# Altium footprint library Lib Marius.PcbLib: 393 footprints (part 20 of 25)
Each footprint in its own frame and in the unit in brackets; x right, y up, seen from the top. Pads: shape width x height; smd on the part's side, far side on the other; paste and mask are expansions set on the pad; w line width, h text height; cw(c..) or ccw(c..) is an arc to the next point about the centre after c.
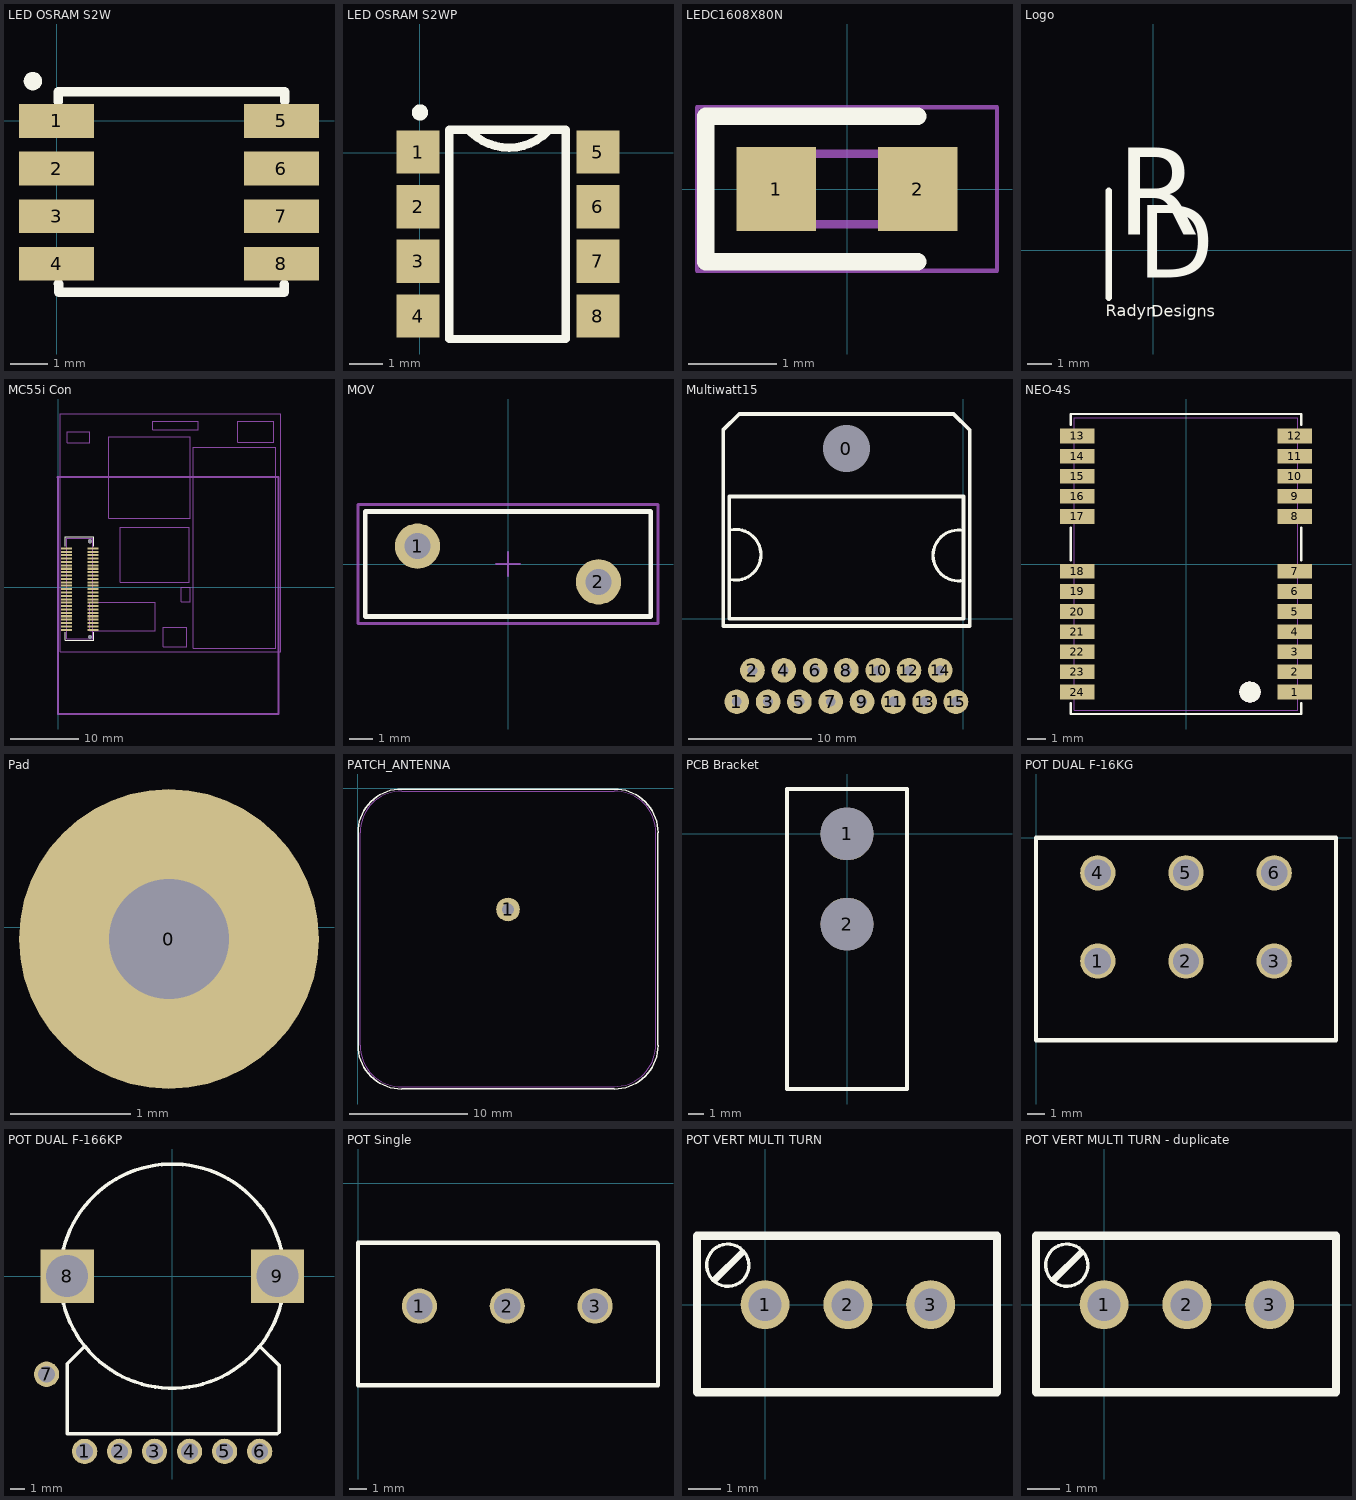
[diagram p19: the footprints below, top view; thin cyan lines are the x and y axes]

## LED OSRAM S2W [mm] "Osram RGBW LED"
height 2
pads (8):
  rect 2x0.9 smd: 1(0,0) 2(0,-1.27) 3(0,-2.54) 4(0,-3.81) 5(6,0) 6(6,-1.27) 7(6,-2.54) 8(6,-3.81)
Top Overlay:
  lines w0.254: -0.516,1.097 ccw(c-0.629,1.062) -0.511,1.062 ; 0.044,-4.345 0.056,-4.345 0.056,-4.569 6.076,-4.569 6.076,-4.357 ; 0.044,0.507 0.044,0.778 6.041,0.778 ; 6.076,0.778 6.088,0.778 6.088,0.531

## LED OSRAM S2WP [mm] "Osram RGBW LED"
height 2
pads (8):
  rect 1.3x1.3 smd: 1(-0.053,0.028) 2(-0.053,-1.612) 3(-0.053,-3.252) 4(-0.053,-4.892) 5(5.347,0.028) 6(5.347,-1.612) 7(5.347,-3.252) 8(5.347,-4.892)
Top Overlay:
  lines w0.254: 0.117,1.252 ccw(c0.005,1.216) 0.123,1.216 ; 1.534,0.627 ccw(c2.677,1.79) 3.839,0.647 ; 0.882,-5.58 0.882,0.692 4.386,0.692 4.386,-5.58 0.882,-5.58

## LEDC1608X80N [mm]
pads (2):
  rect 0.9x0.95 smd: 1(-0.8,0) 2(0.8,0)
Top Overlay:
  lines w0.2: 0.8,-0.825 -1.6,-0.825 -1.6,0.825 0.8,0.825
Mechanical 13:
  lines w0.1: -0.8,0.133 -0.533,0.4 ; -0.8,-0.4 -0.8,0.4 0.8,0.4 0.8,-0.4 -0.8,-0.4
Mechanical 15:
  lines w0.05: -1.7,-0.925 -1.7,0.925 1.7,0.925 1.7,-0.925 -1.7,-0.925
3D body "LTST-C190KRKT.stp": height 0.8, standoff 0, extent -0.83,-0.4 0.77,0.4

## Logo [mm] "Radyn Designs Logo"
Top Overlay:
  lines w0.254: -1.8,-1.908 -1.8,2.387
  text "Designs" at -0.082,-2.84 h0.8
  text "Radyn" at -1.909,-2.803 h0.8
  text "D" at -0.628,-2.063 h5
  text "R" at -1.477,-0.519 h6

## MC55i Con [mm]
pads (52):
  rect 1.6x0.3 smd mask+0: 1(5.15,5.7) 2(5.15,5.2) 3(5.15,4.7) 4(5.15,4.2) 5(5.15,3.7) 6(5.15,3.2) 7(5.15,2.7) 8(5.15,2.2) 9(5.15,1.7) 10(5.15,1.2) 11(5.15,0.7) 12(5.15,0.2) 13(5.15,-0.3) 14(5.15,-0.8) 15(5.15,-1.3) 16(5.15,-1.8) 17(5.15,-2.3) 18(5.15,-2.8) 19(5.15,-3.3) 20(5.15,-3.8) 21(5.15,-4.3) 22(5.15,-4.8) 23(5.15,-5.3) 24(5.15,-5.8) 25(5.15,-6.3) 26(1.25,-6.3) 27(1.25,-5.8) 28(1.25,-5.3) 29(1.25,-4.8) 30(1.25,-4.3) 31(1.25,-3.8) 32(1.25,-3.3) 33(1.25,-2.8) 34(1.25,-2.3) 35(1.25,-1.8) 36(1.25,-1.3) 37(1.25,-0.8) 38(1.25,-0.3) 39(1.25,0.2) 40(1.25,0.7) 41(1.25,1.2) 42(1.25,1.7) 43(1.25,2.2) 44(1.25,2.7) 45(1.25,3.2) 46(1.25,3.7) 47(1.25,4.2) 48(1.25,4.7) 49(1.25,5.2) 50(1.25,5.7)
  round 0.6 hole 0.6 unplated mask+0: 51(4.7,6.75) 52(4.7,-7.35)
Top Overlay:
  lines w0.127: 1.1,-6.65 1.1,-7.8 5.3,-7.8 5.3,-6.65 ; 1.1,6.05 1.1,7.4 5.3,7.4 5.3,6.05
Mechanical 7:
  lines w0.3: -0.1,16.2 32.5,16.2 32.5,-18.7 0,-18.7 0,16.1 -0.1,16.2
Mechanical 13:
  lines w0.065: 1.3,-7.6 1.3,7.2 5.1,7.2 5.1,-7.6 1.3,-7.6
  text ".Designator" at 3.55,-3.825 h0.69
Mechanical 32:
  lines w0.065: 0.3,-9.5 0.3,25.5 32.8,25.5 32.8,-9.5 0.3,-9.5 ; 1.35,21.3 4.65,21.3 4.65,22.9 1.35,22.9 1.35,21.3 ; 4.7,-6.45 14.3,-6.45 14.3,-2.25 4.7,-2.25 4.7,-6.45 ; 7.5,10.15 19.5,10.15 19.5,22.15 7.5,22.15 7.5,10.15 ; 9.2,0.7 9.2,8.8 19.3,8.8 19.3,0.7 9.2,0.7 ; 13.95,23.15 13.95,24.45 20.65,24.45 20.65,23.15 13.95,23.15 ; 15.5,-8.8 19,-8.8 19,-5.95 15.5,-5.95 15.5,-8.8 ; 18.15,-2.15 18.15,0 19.45,0 19.45,-2.15 18.15,-2.15 ; 19.9,-9 19.9,20.6 32.1,20.6 32.1,-9 19.9,-9 ; 26.5,21.35 31.75,21.35 31.75,24.45 31.05,24.45 26.5,24.45 26.5,21.35
3D body "df12_4_0_-50dp-0_5v_asm.stp": height 3.7, standoff -0.2, extent 0.9,-8.1 5.5,7.5

## MOV [mm] "MOV, Metal oxide varistor, dia 12mm, width 4.4mm"
height 14.5
pads (2):
  round 1.9 hole 1.1: 1(-3.8,0.75) 2(3.8,-0.75)
Top Overlay:
  lines w0.2: -6,-2.2 -6,2.2 -4.875,2.2 6,2.2 6,-2.2 2.575,-2.2 -6,-2.2
  text ".Designator" at -5.5,2.8 h1
Mechanical 13:
  lines w0.1: -6,-2.2 -6,2.2 6,2.2 6,-2.2 -6,-2.2
Mechanical 15:
  lines w0.1: -0.5,0 0.5,0 ; 0,-0.5 0,0.5
  lines w0.127: -6.3,-2.5 -6.3,2.5 6.3,2.5 6.3,-2.5 -6.3,-2.5
3D body "User Library-final MOV7,5.step": height 16.5, standoff -2, extent -5.784,-0.8 5.5,1.05

## Multiwatt15 [mm]
pads (16):
  round 3 hole 3.8: 0(-9.5,13.8)
  round 2 hole 0.8: 1(-18.39,-6.74) 2(-17.12,-4.2) 3(-15.85,-6.74) 4(-14.58,-4.2) 5(-13.31,-6.74) 6(-12.04,-4.2) 7(-10.77,-6.74) 8(-9.5,-4.2) 9(-8.23,-6.74) 10(-6.96,-4.2) 11(-5.69,-6.74) 12(-4.42,-4.2) 13(-3.15,-6.74) 14(-1.88,-4.2) 15(-0.61,-6.74)
Top Overlay:
  lines w0.254: -18.9,3.157 ccw(c-18.496,5.178) -18.9,7.2 ; 0,3.1 cw(c-0.404,5.122) 0,7.143
  lines w0.3: -19.5,15.2 -19.5,15.3 ; -19.5,15.3 -18.2,16.6 ; -19.5,15.3 -19.5,-0.6 0.5,-0.6 0.5,15.3 ; -19.5,15.3 -18.2,16.6 ; -18.2,16.6 -0.8,16.6 ; -0.8,16.6 0.5,15.3 ; -0.8,16.6 0.5,15.3 ; -19,0 -19,9.9 0,9.9 0,0 -19,0

## NEO-4S [mm]
pads (24):
  rect 1.9x0.8 smd mask+0: 1(5.95,-7) 2(5.95,-5.9) 3(5.95,-4.8) 4(5.95,-3.7) 5(5.95,-2.6) 6(5.95,-1.5) 7(5.95,-0.4) 8(5.95,2.6) 9(5.95,3.7) 10(5.95,4.8) 11(5.95,5.9) 12(5.95,7) 13(-5.95,7) 14(-5.95,5.9) 15(-5.95,4.8) 16(-5.95,3.7) 17(-5.95,2.6) 18(-5.95,-0.4) 19(-5.95,-1.5) 20(-5.95,-2.6) 21(-5.95,-3.7) 22(-5.95,-4.8) 23(-5.95,-5.9) 24(-5.95,-7)
Top Overlay:
  region: 3.507,-6.424 3.51,-6.423 3.516,-6.426 3.522,-6.425 3.708,-6.462 3.72,-6.469 3.733,-6.472 3.899,-6.582 3.906,-6.594 3.918,-6.601 4.028,-6.767 4.031,-6.78 4.038,-6.792 4.077,-6.987 4.075,-7 4.077,-7.013 4.038,-7.208 4.031,-7.22 4.028,-7.233 3.918,-7.399 3.906,-7.406 3.899,-7.418 3.733,-7.528 3.72,-7.531 3.708,-7.538 3.513,-7.577 3.5,-7.575 3.487,-7.577 3.292,-7.538 3.28,-7.531 3.267,-7.528 3.101,-7.418 3.094,-7.406 3.082,-7.399 2.972,-7.233 2.969,-7.22 2.962,-7.208 2.923,-7.013 2.925,-7 2.923,-6.987 2.962,-6.792 2.969,-6.78 2.972,-6.767 3.082,-6.601 3.094,-6.594 3.101,-6.582 3.267,-6.472 3.28,-6.469 3.292,-6.462 3.487,-6.423 3.493,-6.424 3.5,-6.421
  lines w0.127: -6.3,-7.6 -6.3,-8.2 6.3,-8.2 6.3,-7.6 ; -6.3,0.2 -6.3,2 ; -6.3,7.6 -6.3,8.2 6.3,8.2 6.3,7.6 ; 6.3,0.2 6.3,2
Mechanical 1:
  region: 3.507,-6.424 3.51,-6.423 3.516,-6.426 3.522,-6.425 3.708,-6.462 3.72,-6.469 3.733,-6.472 3.899,-6.582 3.906,-6.594 3.918,-6.601 4.028,-6.767 4.031,-6.78 4.038,-6.792 4.077,-6.987 4.075,-7 4.077,-7.013 4.038,-7.208 4.031,-7.22 4.028,-7.233 3.918,-7.399 3.906,-7.406 3.899,-7.418 3.733,-7.528 3.72,-7.531 3.708,-7.538 3.513,-7.577 3.5,-7.575 3.487,-7.577 3.292,-7.538 3.28,-7.531 3.267,-7.528 3.101,-7.418 3.094,-7.406 3.082,-7.399 2.972,-7.233 2.969,-7.22 2.962,-7.208 2.923,-7.013 2.925,-7 2.923,-6.987 2.962,-6.792 2.969,-6.78 2.972,-6.767 3.082,-6.601 3.094,-6.594 3.101,-6.582 3.267,-6.472 3.28,-6.469 3.292,-6.462 3.487,-6.423 3.493,-6.424 3.5,-6.421
Mechanical 13:
  lines w0.065: -6.1,-7.999 -6.1,7.999 6.1,7.999 6.1,-7.999 -6.1,-7.999

## Pad [mm]
pads (1):
  round 2.5 hole 1: 0(-3.7,-0.1)

## PATCH_ANTENNA [mm]
pads (1):
  round 2 hole 1 mask+0: 1(12.725,-10.25)
Top Overlay:
  lines w0.127: 0.025,-21.75 ccw(c3.725,-21.75) 3.725,-25.45 21.725,-25.45 ccw(c21.725,-21.75) 25.425,-21.75 25.425,-3.75 ccw(c21.725,-3.75) 21.725,-0.05 3.725,-0.05 ccw(c3.725,-3.75) 0.025,-3.75 0.025,-21.75
Top Solder:
  region: 21.731,-0.608 21.737,-0.606 21.791,-0.61 21.801,-0.615 21.812,-0.614 22.353,-0.743 22.362,-0.75 22.374,-0.75 22.888,-0.963 22.896,-0.971 22.907,-0.973 23.381,-1.264 23.388,-1.273 23.399,-1.276 23.822,-1.638 23.827,-1.648 23.837,-1.653 24.199,-2.076 24.202,-2.087 24.211,-2.094 24.502,-2.568 24.504,-2.579 24.512,-2.587 24.725,-3.101 24.725,-3.113 24.732,-3.122 24.861,-3.663 24.86,-3.674 24.865,-3.684 24.869,-3.738 24.862,-3.759 24.87,-21.751 24.867,-21.756 24.869,-21.762 24.865,-21.816 24.86,-21.826 24.861,-21.837 24.732,-22.378 24.725,-22.387 24.725,-22.399 24.512,-22.913 24.504,-22.921 24.502,-22.932 24.211,-23.406 24.202,-23.413 24.199,-23.424 23.837,-23.847 23.827,-23.852 23.822,-23.862 23.399,-24.224 23.388,-24.227 23.381,-24.236 22.907,-24.527 22.896,-24.529 22.888,-24.537 22.374,-24.75 22.362,-24.75 22.353,-24.757 21.812,-24.886 21.801,-24.885 21.791,-24.89 21.737,-24.894 21.716,-24.887 3.724,-24.895 3.719,-24.892 3.713,-24.894 3.659,-24.89 3.649,-24.885 3.638,-24.886 3.097,-24.757 3.088,-24.75 3.076,-24.75 2.562,-24.537 2.554,-24.529 2.543,-24.527 2.069,-24.236 2.062,-24.227 2.051,-24.224 1.628,-23.862 1.623,-23.852 1.613,-23.847 1.251,-23.424 1.248,-23.413 1.239,-23.406 0.948,-22.932 0.946,-22.921 0.938,-22.913 0.725,-22.399 0.725,-22.387 0.718,-22.378 0.589,-21.837 0.59,-21.826 0.585,-21.816 0.581,-21.762 0.588,-21.741 0.588,-3.75 0.59,-3.745 0.588,-3.739 0.609,-3.478 0.614,-3.468 0.612,-3.456 0.732,-2.958 0.738,-2.948 0.738,-2.937 0.935,-2.463 0.943,-2.455 0.944,-2.444 1.213,-2.006 1.222,-2 1.225,-1.989 1.558,-1.599 1.569,-1.594 1.574,-1.583 1.964,-1.25 1.975,-1.247 1.981,-1.238 2.419,-0.969 2.43,-0.968 2.438,-0.96 2.912,-0.763 2.923,-0.763 2.933,-0.757 3.431,-0.637 3.443,-0.639 3.453,-0.634 3.714,-0.613 3.72,-0.615 3.725,-0.613 21.726,-0.605
Mechanical 13:
  lines w0.065: 21.711,-25.25 ccw(c21.712,-21.737) 25.224,-21.651 ; 21.712,-25.25 3.725,-25.25 cw(c3.642,-21.833) 0.225,-21.75 0.225,-3.75 cw(c3.642,-3.667) 3.725,-0.25 21.725,-0.25 cw(c21.808,-3.667) 25.225,-3.75 25.225,-21.625

## PCB Bracket [mm]
height 22
pads (2):
  round 3.5 hole 3.5: 1(0,0) 2(0,-6)
Top Overlay:
  lines w0.3: -4,-17 -4,3 4,3 4,-1 4,-17 -4,-17
3D body "PCB Bracket v3.step": height 20, standoff 0, extent -4,-17 4,3

## POT DUAL F-16KG [mm] "Potentiometer Vertical"
height 30
pads (6):
  round 2 hole 1.5: 1(3.5,-7) 2(8.5,-7) 3(13.5,-7) 4(3.5,-2) 5(8.5,-2) 6(13.5,-2)
Top Overlay:
  lines w0.254: 0,-11.5 0,0 17,0 17,-11.5 0,-11.5
3D body: height 20.93, standoff 4, extent 0.017,-11.5 16.983,0
3D body: height 15.97, standoff 9, extent 4.507,-18 11.493,-11.5
3D body: height 15.48, standoff 9.5, extent 5.006,-33 10.994,-18

## POT DUAL F-166KP [mm] "Potentiometer Horisontal"
height 30
pads (9):
  round 1.8 hole 1.2: 1(-6.25,-12.502) 2(-3.765,-12.5) 3(-1.265,-12.5) 4(1.235,-12.5) 5(3.735,-12.5) 6(6.235,-12.5) 7(-8.965,-7)
  rect 3.8x3.8 hole 3 square: 8(-7.5,-0.002) 9(7.5,-0.002)
Top Overlay:
  circle w0.254: c0,-0.002 r8
  lines w0.254: -6.25,-5 -7.5,-6.25 -7.5,-11.25 7.5,-11.25 7.625,-11.125 7.625,-6.375 6.25,-5
3D body: height 27, standoff 17, extent -2.976,-2.994 3,2.994
3D body: height 17, standoff 10, extent -4.464,-4.493 4.5,4.49
3D body: height 10, standoff 0, extent -7.937,-7.986 8,7.983

## POT Single [mm] "Potentiometer Vertical"
height 30
pads (3):
  round 2 hole 1.5: 1(3.5,-7) 2(8.5,-7) 3(13.5,-7)
Top Overlay:
  lines w0.254: 17,-11.5 0,-11.5 0,-3.4 17,-3.4 ; 17.083,-11.5 17.083,-3.483
3D body: height 15.48, standoff 9.5, extent 5.006,-33 10.994,-18
3D body: height 15.97, standoff 9, extent 4.507,-18 11.493,-11.5
3D body: height 20.93, standoff 4, extent 0.117,-11.5 17.083,-3.5

## POT VERT MULTI TURN [mm] "Potentiometer Vertical"
height 6
pads (3):
  round 1.5 hole 1: 1(0,0) 2(2.54,0) 3(5.08,0)
Top Overlay:
  lines w0.1: -0.495,1.24 cw(c-1.142,1.21) -0.496,1.254
  lines w0.2: -1.533,0.77 -0.7,1.602
  lines w0.254: -2.087,-2.687 7.113,-2.687 7.113,2.113 -2.087,2.113 -2.087,-2.687
3D body "POT Vertical.STEP": height 12.46, standoff -5.04, extent -2.087,-2.687 7.113,2.113

## POT VERT MULTI TURN - duplicate [mm] "Potentiometer Vertical"
height 6
pads (3):
  round 1.5 hole 1: 1(0,0) 2(2.54,0) 3(5.08,0)
Top Overlay:
  lines w0.1: -0.495,1.24 cw(c-1.142,1.21) -0.496,1.254
  lines w0.2: -1.533,0.77 -0.7,1.602
  lines w0.254: -2.087,-2.687 -2.087,2.113 7.113,2.113 7.113,-2.687 -2.087,-2.687
3D body "POT Vertical.STEP": height 12.46, standoff -5.04, extent -2.087,-2.687 7.113,2.113